# Altium footprint library Flyback_lib.PcbLib: 17 footprints (part 2 of 2)
Each footprint in its own frame and in the unit in brackets; x right, y up, seen from the top. Pads: shape width x height; smd on the part's side, far side on the other; paste and mask are expansions set on the pad; w line width, h text height; cw(c..) or ccw(c..) is an arc to the next point about the centre after c.
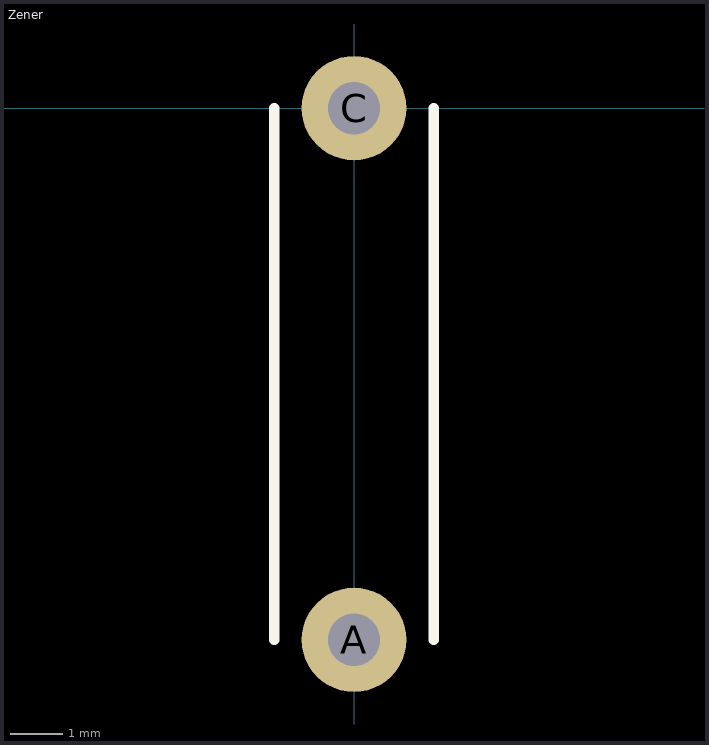
[diagram p1: the footprint, top view; thin cyan lines are the x and y axes]

## Zener [mm]
pads (2):
  round 2 hole 1: A(0,-10.16) C(0,0)
Top Overlay:
  lines w0.2: -1.524,-10.16 -1.524,0 ; 1.524,-10.16 1.524,0